# EAGLE library part FT232RL (library bbauv)
The FT232R is a USB to serial UART interface.
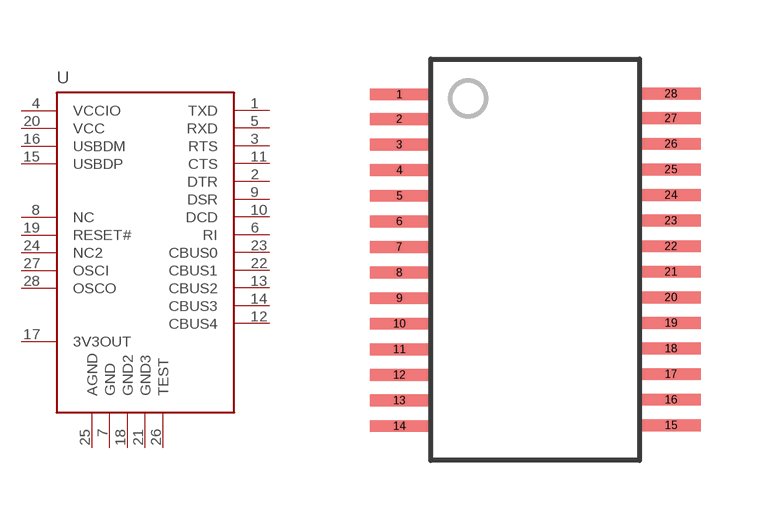
[diagram p9: symbol with the pads of SSOP-28; footprint SSOP-28]

Designator prefix -

## FT232RL  [SSOP-28]
1  TXD
2  DTR
3  RTS
4  VCCIO
5  RXD
6  RI
7  GND
8  NC
9  DSR
10  DCD
11  CTS
12  CBUS4
13  CBUS2
14  CBUS3
15  USBDP
16  USBDM
17  3V3OUT
18  GND2
19  RESET#
20  VCC
21  GND3
22  CBUS1
23  CBUS0
24  NC2
25  AGND
26  TEST
27  OSCI
28  OSCO

## Footprint SSOP-28 (pad centres in mm)
smd 1.5 x 0.3: 1 -3.45,4.2; 2 -3.45,3.575; 3 -3.45,2.925; 4 -3.45,2.275; 5 -3.45,1.625; 6 -3.45,0.975; 7 -3.45,0.325; 8 -3.45,-0.325; 9 -3.45,-0.975; 10 -3.45,-1.625; 11 -3.45,-2.275; 12 -3.45,-2.925; 13 -3.45,-3.575; 14 -3.45,-4.225; 15 3.45,-4.205; 16 3.45,-3.555; 17 3.45,-2.905; 18 3.45,-2.255; 19 3.45,-1.605; 20 3.45,-0.955; 21 3.45,-0.305; 22 3.45,0.345; 23 3.45,0.995; 24 3.45,1.645; 25 3.45,2.295; 26 3.45,2.945; 27 3.45,3.595; 28 3.45,4.22